# EAGLE library part PICAXE-14M (library picaxe)
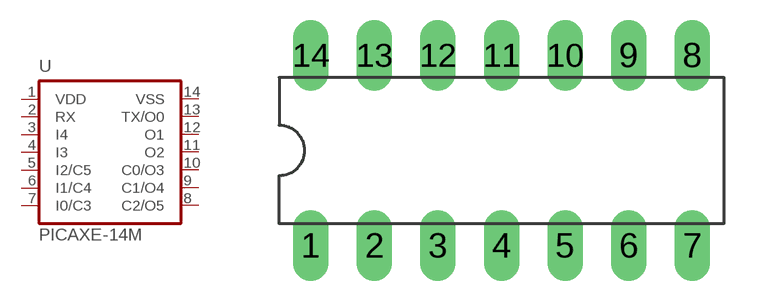
[diagram p1: symbol with the pads of DIL14; footprint DIL14]

Designator prefix -

## PICAXE-14M  [DIL14]
1  VDD  pwr
2  RX  in
3  I4  in
4  I3  in
5  I2/C5
6  I1/C4
7  I0/C3
8  C2/O5
9  C1/O4
10  C0/O3
11  O2  out
12  O1  out
13  TX/O0  out
14  VSS  pwr

## Footprint DIL14 (pad centres in mm)
drill 0.813 pad 1.422 long: 1 -7.62,-3.81; 2 -5.08,-3.81; 3 -2.54,-3.81; 4 0,-3.81; 5 2.54,-3.81; 6 5.08,-3.81; 7 7.62,-3.81; 8 7.62,3.81; 9 5.08,3.81; 10 2.54,3.81; 11 0,3.81; 12 -2.54,3.81; 13 -5.08,3.81; 14 -7.62,3.81